# Altium schematic symbol library ISL21080.SchLib: 1 symbol
Pins are listed as number, name and electrical type; pins without a type are passive.

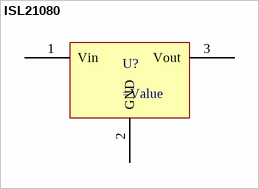
[diagram p0: symbol ISL21080]

## ISL21080
designator U?
pins: 1 Vin (power), 2 GND, 3 Vout (power)